# Altium footprint library S25FL064P0XMFA000.PcbLib: 1 footprints
Each footprint in its own frame and in the unit in brackets; x right, y up, seen from the top. Pads: shape width x height; smd on the part's side, far side on the other; paste and mask are expansions set on the pad; w line width, h text height; cw(c..) or ccw(c..) is an arc to the next point about the centre after c.
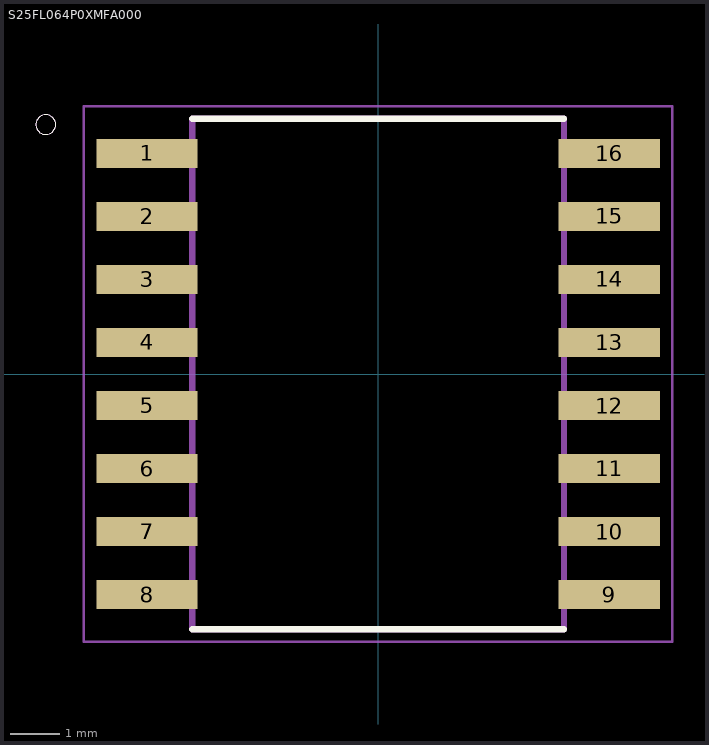
[diagram p0: the footprint, top view; thin cyan lines are the x and y axes]

## S25FL064P0XMFA000 [mm]
pads (16):
  rect 2.04x0.58 smd: 1(-4.655,4.445) 2(-4.655,3.175) 3(-4.655,1.905) 4(-4.655,0.635) 5(-4.655,-0.635) 6(-4.655,-1.905) 7(-4.655,-3.175) 8(-4.655,-4.445) 9(4.655,-4.445) 10(4.655,-3.175) 11(4.655,-1.905) 12(4.655,-0.635) 13(4.655,0.635) 14(4.655,1.905) 15(4.655,3.175) 16(4.655,4.445)
Top Overlay:
  circle w0: c-6.695,5.025 r0.2
  lines w0.127: -3.746,-5.143 3.746,-5.143 ; -3.746,5.143 3.746,5.143
Mechanical 13:
  circle w0: c-6.695,5.025 r0.2
  circle w0: c-6.695,5.025 r0.2
  lines w0.127: -3.746,-5.143 -3.746,5.143 ; -3.746,-5.143 3.746,-5.143 ; -3.746,-5.143 -3.746,5.143 ; -3.746,-5.143 3.746,-5.143 ; -3.746,5.143 3.746,5.143 ; -3.746,5.143 3.746,5.143 ; 3.746,-5.143 3.746,5.143 ; 3.746,-5.143 3.746,5.143
Mechanical 15:
  lines w0.05: -5.925,-5.393 -5.925,5.393 5.925,5.393 5.925,-5.393 -5.925,-5.393